# Altium schematic symbol library TPS54232.SchLib: 1 symbol
Pins are listed as number, name and electrical type; pins without a type are passive.

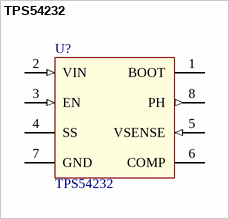
[diagram p0: symbol TPS54232]

## TPS54232
designator U?
TPS54232 2-A, 28-V, 1-MHz, Step-Down DC-DC Converter With Eco-Mode™; value: TPS54232
pins: 1 BOOT, 2 VIN (in), 3 EN (in), 4 SS, 5 VSENSE (in), 6 COMP, 7 GND (power), 8 PH (out)